# Altium footprint library PMV48XPAR.PcbLib: 1 footprints
Each footprint in its own frame and in the unit in brackets; x right, y up, seen from the top. Pads: shape width x height; smd on the part's side, far side on the other; paste and mask are expansions set on the pad; w line width, h text height; cw(c..) or ccw(c..) is an arc to the next point about the centre after c.
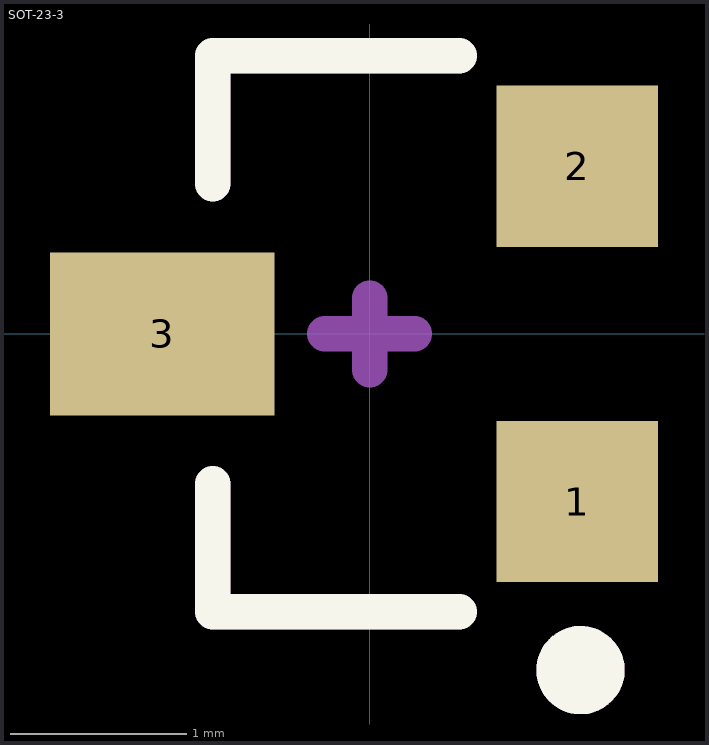
[diagram p0: the footprint, top view; thin cyan lines are the x and y axes]

## SOT-23-3 [mm]
height 1
pads (3):
  rect 0.914x0.914 smd mask+0.07: 1(1.175,-0.95) 2(1.175,0.95)
  rect 1.27x0.924 smd: 3(-1.175,0)
Top Overlay:
  circle w0.25: c1.194,-1.905 r0.125
  lines w0.2: -0.889,-0.85 -0.889,-1.575 0.508,-1.575 ; -0.889,0.85 -0.889,1.575 0.508,1.575
Top Designator:
  text ".Designator" at -5.461,-0.381 h1.52
Top Assembly:
  circle w0.25: c1.194,-1.905 r0.125
  lines w0.2: -0.889,-0.85 -0.889,-1.575 0.508,-1.575 ; -0.889,0.85 -0.889,1.575 0.508,1.575
Top Component Center:
  lines w0.2: -0.254,0 0.254,0 ; 0,-0.203 0,0.203
Top Component Outline:
  circle w0.25: c1.194,-1.905 r0.125
  lines w0.2: -0.889,-0.85 -0.889,-1.575 0.508,-1.575 ; -0.889,0.85 -0.889,1.575 0.508,1.575
3D body "sot23-3.stp": height 1.1, standoff 0.01, extent -1.499,-1.55 1.502,1.55
3D body "0_7-1-sot-23.stp": height 0.02, standoff 0, extent -1.67,-0.344 -0.67,0.356
3D body "0_7-1-sot-23.stp": height 0.02, standoff 0, extent 0.68,0.606 1.68,1.306
3D body "0_7-1-sot-23.stp": height 0.02, standoff 0, extent 0.68,-1.294 1.68,-0.595